# Altium footprint library 双驱.PcbLib: 39 footprints (part 1 of 3)
Each footprint in its own frame and in the unit in brackets; x right, y up, seen from the top. Pads: shape width x height; smd on the part's side, far side on the other; paste and mask are expansions set on the pad; w line width, h text height; cw(c..) or ccw(c..) is an arc to the next point about the centre after c.
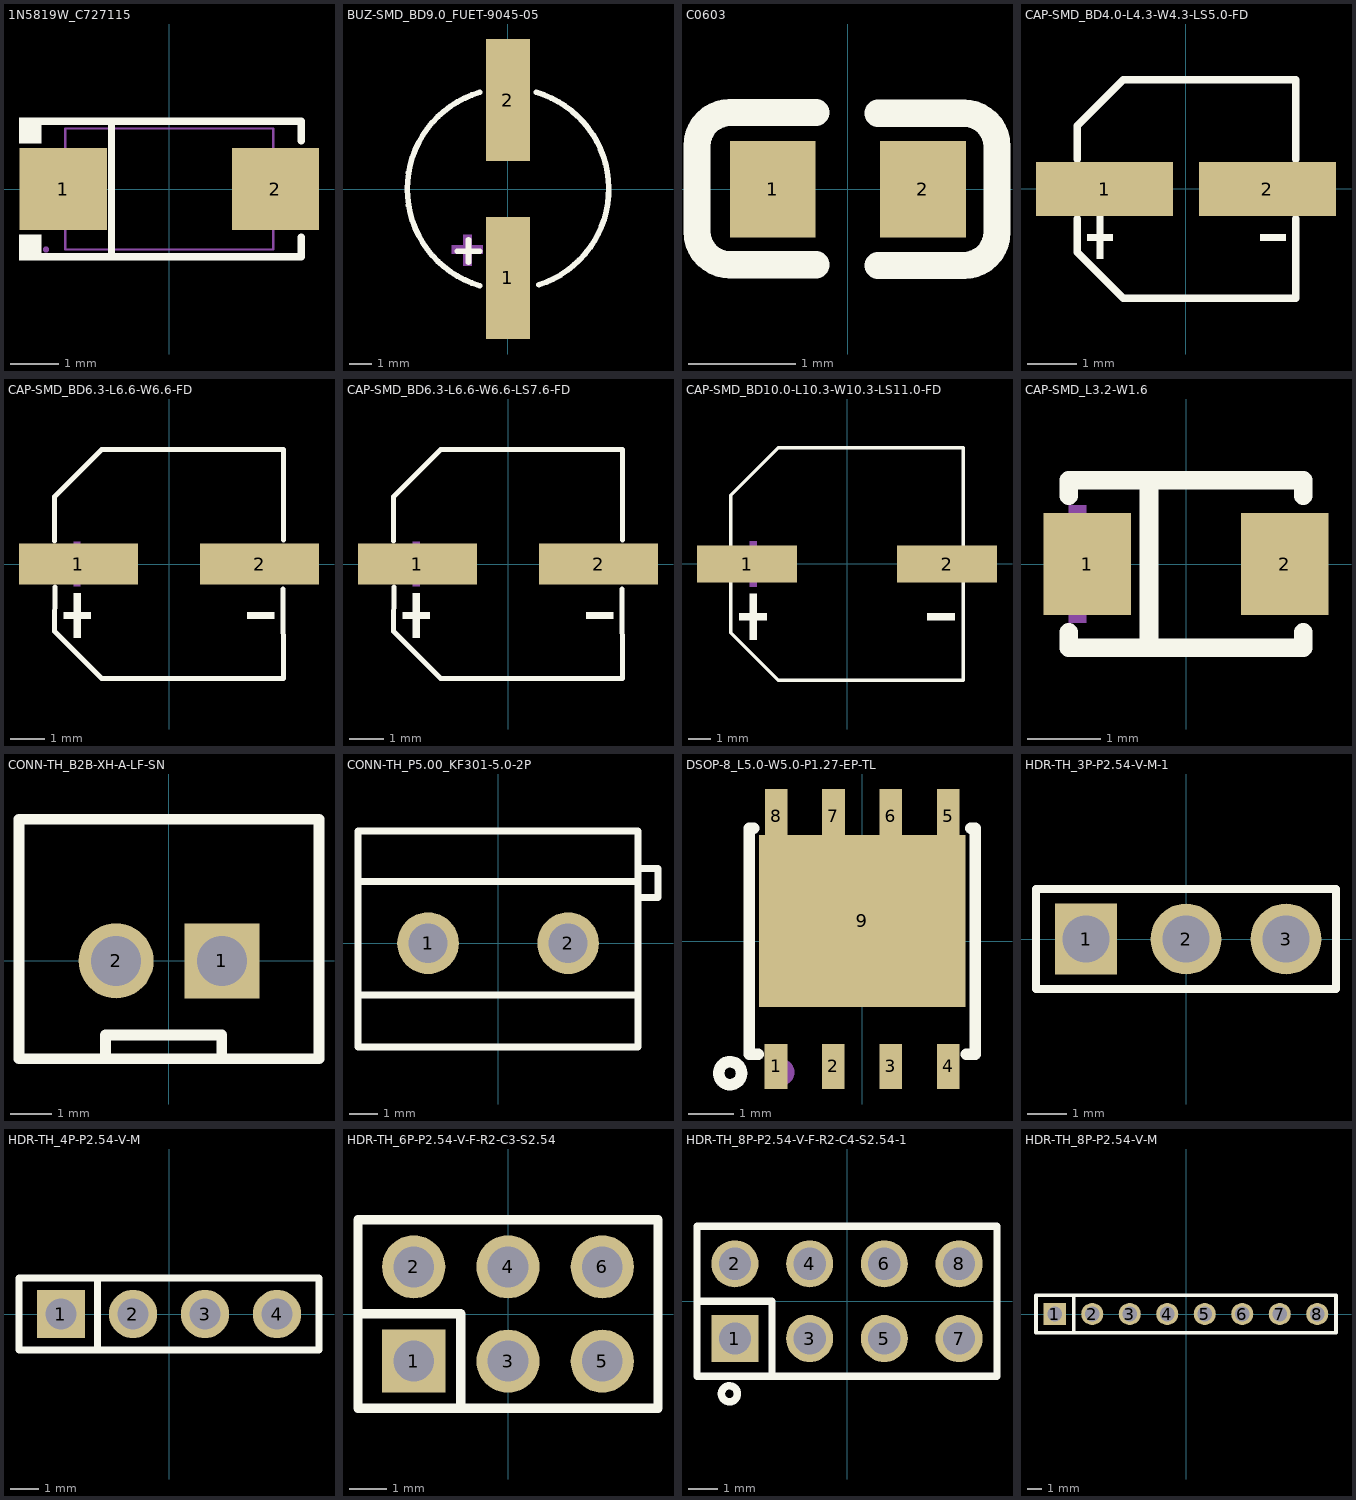
[diagram p0: the footprints below, top view; thin cyan lines are the x and y axes]

## 1N5819W_C727115 [mm]
pads (2):
  rect 1.8x1.7 smd mask+0.051: 1(-2.192,0) 2(2.192,0)
Top Overlay:
  region: -2.65,-1.477 -2.65,-0.949 -3.107,-0.949 -3.107,-1.477
  region: -2.65,1.477 -2.65,0.949 -3.107,0.949 -3.107,1.477
  lines w0.152: -2.726,-1.401 2.726,-1.401 2.726,-1 ; -2.726,1.401 2.726,1.401 2.726,1 ; -1.197,-1.401 -1.197,1.401
Mechanical 6:
  region: 2.153,-0.663 2.153,0.663 1.954,0.663 1.954,-0.663
  region: 2.451,-0.099 2.451,0.099 1.656,0.099 1.656,-0.099
  region: -2.451,-0.099 -2.451,0.099 -1.656,0.099 -1.656,-0.099
Mechanical 15:
  region: 1.35,-0.725 1.35,0.725 2.55,0.725 2.55,-0.725
  region: -1.35,0.725 -1.35,-0.725 -2.55,-0.725 -2.55,0.725
  region: -2.49,-1.25 -2.49,-1.225 -2.525,-1.19 -2.575,-1.19 -2.61,-1.225 -2.61,-1.25 -2.61,-1.275 -2.575,-1.31 -2.525,-1.31 -2.49,-1.275 -2.49,-1.25
  lines w0.051: -2.15,-1.25 2.15,-1.25 2.15,1.25 -2.15,1.25 -2.15,-1.25

## BUZ-SMD_BD9.0_FUET-9045-05 [mm]
pads (2):
  rect 2x5.5 smd: 1(0,-4) 2(0,4)
Top Overlay:
  lines w0.254: -2.286,-2.794 -1.27,-2.794 ; -1.778,-3.302 -1.778,-2.286 ; -1.279,-4.349 cw(c0,0) -1.279,4.349 ; 1.279,4.349 cw(c0,0) 1.395,-4.313
Mechanical 15:
  region: -2.54,-2.54 -1.143,-2.54 -1.143,-2.921 -2.54,-2.921 -2.54,-2.794
  region: -2.009,-3.447 -2.009,-2.05 -1.628,-2.05 -1.628,-3.447 -1.755,-3.447

## C0603 [mm]
pads (2):
  rect 0.8x0.9 smd: 1(-0.7,0) 2(0.7,0)
Top Overlay:
  lines w0.254: -0.296,-0.704 -1.096,-0.704 cw(c-1.096,-0.394) -1.406,-0.394 -1.405,0.406 cw(c-1.096,0.406) -1.096,0.715 -0.296,0.715 ; 0.28,-0.71 1.08,-0.71 ccw(c1.08,-0.4) 1.39,-0.4 1.39,0.4 ccw(c1.08,0.4) 1.08,0.71 0.28,0.71

## CAP-SMD_BD4.0-L4.3-W4.3-LS5.0-FD [mm]
pads (2):
  rect 2.8x1.1 smd: 1(-1.66,0) 2(1.66,0)
Top Overlay:
  region: -1.818,-0.559 -1.818,-1.419 -1.689,-1.419 -1.689,-0.559
  region: -2.011,-0.925 -2.011,-1.054 -1.495,-1.054 -1.495,-0.925
  region: 2.031,-0.925 2.031,-1.054 1.515,-1.054 1.515,-0.925
  lines w0.152: -2.217,-0.607 -2.217,-1.29 -1.28,-2.226 2.236,-2.226 2.236,-0.607 ; -2.217,0.607 -2.217,1.29 -1.28,2.226 2.236,2.226 2.236,0.607
Mechanical 15:
  region: -1.818,0.43 -1.818,-0.43 -1.689,-0.43 -1.689,0.43
  region: -2.011,0.064 -2.011,-0.065 -1.495,-0.065 -1.495,0.064
  region: 2.031,0.064 2.031,-0.065 1.515,-0.065 1.515,0.064

## CAP-SMD_BD6.3-L6.6-W6.6-FD [mm]
pads (2):
  rect 3.5x1.2 smd: 1(-2.67,0) 2(2.67,0)
Top Overlay:
  region: -2.805,-0.858 -2.805,-2.178 -2.607,-2.178 -2.607,-0.858
  region: -3.102,-1.419 -3.102,-1.617 -2.31,-1.617 -2.31,-1.419
  region: 3.102,-1.419 3.102,-1.617 2.31,-1.617 2.31,-1.419
  lines w0.152: -3.376,0.686 -3.376,1.98 -1.98,3.376 3.376,3.376 3.369,0.708 ; -3.362,-0.686 -3.376,-1.981 -1.981,-3.376 3.376,-3.376 3.356,-0.739
Mechanical 15:
  region: -2.81,0.66 -2.81,-0.66 -2.612,-0.66 -2.612,0.66
  region: -3.102,0.099 -3.102,-0.099 -2.31,-0.099 -2.31,0.099
  region: 3.102,0.099 3.102,-0.099 2.31,-0.099 2.31,0.099

## CAP-SMD_BD6.3-L6.6-W6.6-LS7.6-FD [mm]
pads (2):
  rect 3.5x1.2 smd: 1(-2.67,0) 2(2.67,0)
Top Overlay:
  region: 3.102,-1.419 3.102,-1.617 2.31,-1.617 2.31,-1.419
  region: -3.102,-1.419 -3.102,-1.617 -2.31,-1.617 -2.31,-1.419
  region: -2.805,-0.858 -2.805,-2.178 -2.607,-2.178 -2.607,-0.858
  lines w0.152: -3.376,0.686 -3.376,1.98 -1.98,3.376 3.376,3.376 3.369,0.708 ; -3.362,-0.686 -3.376,-1.981 -1.981,-3.376 3.376,-3.376 3.356,-0.739
Mechanical 15:
  region: 3.102,0.099 3.102,-0.099 2.31,-0.099 2.31,0.099
  region: -3.102,0.099 -3.102,-0.099 -2.31,-0.099 -2.31,0.099
  region: -2.805,0.66 -2.805,-0.66 -2.607,-0.66 -2.607,0.66

## CAP-SMD_BD10.0-L10.3-W10.3-LS11.0-FD [mm]
pads (2):
  rect 4.5x1.65 smd: 1(-4.5,0) 2(4.5,0)
Top Overlay:
  region: 4.841,-2.215 4.841,-2.524 3.605,-2.524 3.605,-2.215
  region: -4.841,-2.215 -4.841,-2.524 -3.605,-2.524 -3.605,-2.215
  region: -4.378,-1.339 -4.378,-3.399 -4.069,-3.399 -4.069,-1.339
  lines w0.152: -5.226,-0.852 -5.226,-3.09 -3.09,-5.226 5.226,-5.226 5.226,-0.852 ; -5.226,0.852 -5.226,3.09 -3.09,5.226 5.226,5.226 5.226,0.852
Mechanical 15:
  region: 4.841,0.154 4.841,-0.155 3.605,-0.155 3.605,0.154
  region: -4.841,0.154 -4.841,-0.155 -3.605,-0.155 -3.605,0.154
  region: -4.378,1.03 -4.378,-1.03 -4.069,-1.03 -4.069,1.03

## CAP-SMD_L3.2-W1.6 [mm]
pads (2):
  rect 1.2x1.4 smd: 1(-1.35,0) 2(1.35,0)
Top Overlay:
  region: -0.635,1.143 -0.381,1.143 -0.381,-1.143 -0.508,-1.143 -0.635,-1.143
  lines w0.254: -1.6,-0.931 -1.6,-1.143 -0.128,-1.143 1.6,-1.143 1.6,-0.931 ; -1.6,0.931 -1.6,1.143 1.6,1.143 1.6,0.931
Mechanical 15:
  region: -1.6,-0.8 -1.6,-0.4 -1.36,-0.4 -1.36,-0.8
  region: -1.6,0.8 -1.6,0.4 -1.36,0.4 -1.36,0.8
  region: -1.3,0.4 -1.3,-0.4 -1.18,-0.4 -1.18,0.4
  region: -1.48,0.06 -1.48,-0.06 -1,-0.06 -1,0.06
  region: 1.48,0.06 1.48,-0.06 1,-0.06 1,0.06

## CONN-TH_B2B-XH-A-LF-SN [mm]
pads (2):
  rect 1.8x1.8 hole 1.2: 1(1.27,0)
  round 1.8 hole 1.2: 2(-1.27,0)
Top Overlay:
  lines w0.254: -1.524,-2.286 -1.524,-1.778 1.27,-1.778 1.27,-2.286 ; -3.6,-2.35 -3.6,3.4 3.6,3.4 3.6,-2.35 -3.6,-2.35

## CONN-TH_P5.00_KF301-5.0-2P [mm]
pads (2):
  round 2.2 hole 1.4: 1(-2.5,0) 2(2.5,0)
Top Overlay:
  lines w0.254: -5,-1.845 5,-1.845 ; -5,2.201 5,2.201 ; 5.08,1.626 5.708,1.626 5.708,2.667 5.08,2.667 ; -5,-3.7 -5,4 5,4 5,-3.7 -5,-3.7

## DSOP-8_L5.0-W5.0-P1.27-EP-TL [mm]
pads (10):
  rect 0.5x1 smd: 1(-1.906,-2.77) 2(-0.636,-2.77) 3(0.634,-2.77) 4(1.904,-2.77)
  rect 0.5x1.2 smd: 5(1.906,2.77) 6(0.636,2.77) 7(-0.634,2.77) 8(-1.904,2.77)
  rect 4.572x3.81 smd: 9(0,0.45)
  round 0 smd: 9(0,0.45)
Top Overlay:
  circle w0.254: c-2.921,-2.921 r0.254
  lines w0.254: -2.4,2.5 -2.5,2.5 -2.5,-2.5 -2.3,-2.5 ; 2.3,-2.5 2.5,-2.5 2.5,2.5 2.4,2.5
Top Paste:
  region: -2.125,2.2 2.125,2.2 2.125,-1.3 -2.125,-1.3
  region: -2.125,2.2 -2.155,2.2 -2.155,3.37 -1.655,3.37 -1.655,2.2 -0.885,2.2 -0.885,3.37 -0.385,3.37 -0.385,2.2 0.385,2.2 0.385,3.37 0.885,3.37 0.885,2.2 1.655,2.2 1.655,3.37 2.155,3.37 2.155,2.17 2.125,2.17 2.125,-1.3 -2.125,-1.3
  region: 2.153,-2.269 2.153,-3.27 1.655,-3.27 1.655,-2.269
  region: 0.883,-2.269 0.883,-3.27 0.385,-3.27 0.385,-2.269
  region: -0.387,-2.269 -0.387,-3.27 -0.885,-3.27 -0.885,-2.269
  region: -1.657,-2.269 -1.657,-3.27 -2.155,-3.27 -2.155,-2.269
Top Solder:
  region: -2.125,2.2 2.125,2.2 2.125,-1.3 -2.125,-1.3
Mechanical 15:
  circle w0.3: c-1.8,-2.9 r0.15

## HDR-TH_3P-P2.54-V-M-1 [mm]
pads (3):
  rect 1.575x1.8 hole 1.2: 1(-2.54,0)
  round 1.8 hole 1.2: 2(0,0) 3(2.54,0)
Top Overlay:
  lines w0.203: -3.81,-1.27 3.81,-1.27 3.81,1.27 -1.905,1.27 -3.81,1.27 -3.81,-1.27

## HDR-TH_4P-P2.54-V-M [mm]
pads (4):
  rect 1.7x1.7 hole 1.1: 1(-3.81,0)
  round 1.7 hole 1.1: 2(-1.27,0) 3(1.27,0) 4(3.81,0)
Top Overlay:
  lines w0.254: -2.516,-1.27 -2.516,1.27 ; -5.29,-1.27 5.29,-1.27 5.29,1.27 -5.29,1.27 -5.29,-1.27

## HDR-TH_6P-P2.54-V-F-R2-C3-S2.54 [mm]
pads (6):
  rect 1.7x1.7 hole 1.1: 1(-2.54,-1.27)
  round 1.7 hole 1.1: 2(-2.54,1.27) 3(0,-1.27) 4(0,1.27) 5(2.54,-1.27) 6(2.54,1.27)
Top Overlay:
  lines w0.254: -4.04,0.007 -1.27,0.007 -1.27,-2.54 ; -4.04,-2.54 4.04,-2.54 4.04,2.54 -4.04,2.54 -4.04,-2.54

## HDR-TH_8P-P2.54-V-F-R2-C4-S2.54-1 [mm]
pads (8):
  rect 1.6x1.6 hole 1.1: 1(-3.81,-1.27)
  round 1.6 hole 1.1: 2(-3.81,1.27) 3(-1.27,-1.27) 4(-1.27,1.27) 5(1.27,-1.27) 6(1.27,1.27) 7(3.81,-1.27) 8(3.81,1.27)
Top Overlay:
  circle w0.254: c-4,-3.15 r0.272
  lines w0.254: -5.1,0 -2.55,0 -2.55,-2.55 ; -5.1,-2.55 -5.1,0.4 -5.1,2.55 5.1,2.55 5.1,-2.55 -5.1,-2.55

## HDR-TH_8P-P2.54-V-M [mm]
pads (8):
  rect 1.5x1.5 hole 1: 1(-8.89,0)
  round 1.5 hole 1: 2(-6.35,0) 3(-3.81,0) 4(-1.27,0) 5(1.27,0) 6(3.81,0) 7(6.35,0) 8(8.89,0)
Top Overlay:
  lines w0.254: -7.596,-1.27 -7.596,1.27 ; -10.16,-1.27 10.16,-1.27 10.16,1.27 -10.16,1.27 -10.16,-1.27